# EAGLE library part LCD-30PIN (library GeekAmmo)
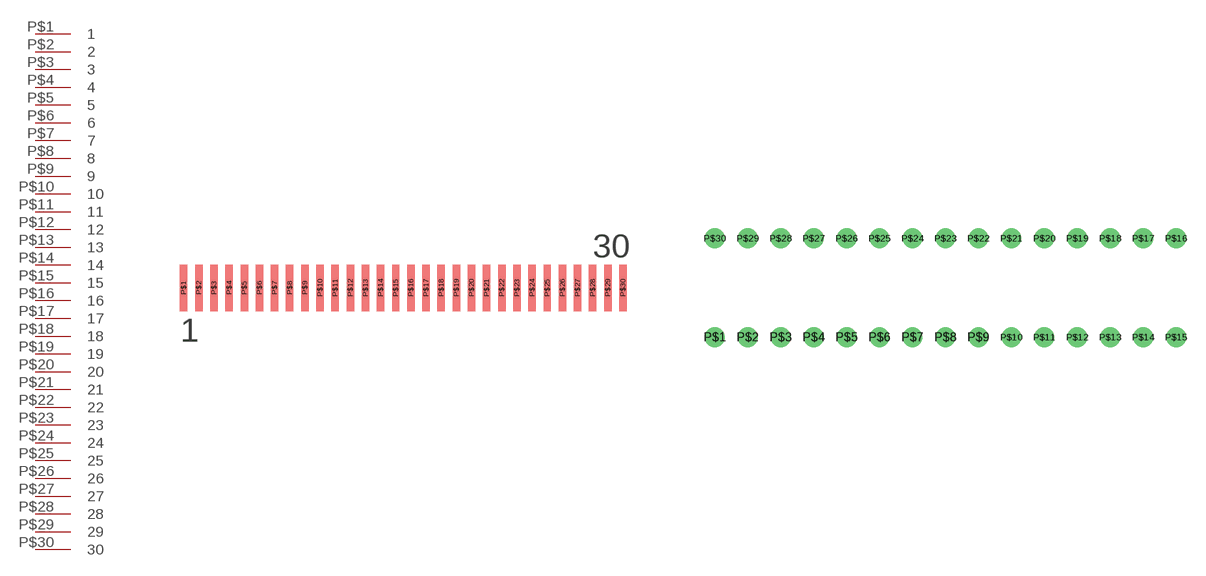
[diagram p8: symbol with the pads of FPC-30-0.65; footprints FPC-30-0.65, 15X2-PTH-BREADBOARD]

Designator prefix -

## LCD-30PIN-FPC-30-0.65  [FPC-30-0.65]
P$1  1
P$2  2
P$3  3
P$4  4
P$5  5
P$6  6
P$7  7
P$8  8
P$9  9
P$10  10
P$11  11
P$12  12
P$13  13
P$14  14
P$15  15
P$16  16
P$17  17
P$18  18
P$19  19
P$20  20
P$21  21
P$22  22
P$23  23
P$24  24
P$25  25
P$26  26
P$27  27
P$28  28
P$29  29
P$30  30

## LCD-30PIN-15X2-PTH-BREADBOARD  [15X2-PTH-BREADBOARD]
Pads as for FPC-30-0.65

## LCD-30PIN-FPC-30-1.00  [FPC-30-1.00]
Pads as for FPC-30-0.65

## LCD-30PIN-FPC-30-0.70  [FPC-30-0.70]
1  1
2  2
3  3
4  4
5  5
6  6
7  7
8  8
9  9
10  10
11  11
12  12
13  13
14  14
15  15
16  16
17  17
18  18
19  19
20  20
21  21
22  22
23  23
24  24
25  25
26  26
27  27
28  28
29  29
30  30

## Footprint FPC-30-0.65 (pad centres in mm)
30 PIN FPC 0.65 mm pitch
smd 0.32 x 2: P$1 0,0; P$2 0.65,0; P$3 1.3,0; P$4 1.95,0; P$5 2.6,0; P$6 3.25,0; P$7 3.9,0; P$8 4.55,0; P$9 5.2,0; P$10 5.85,0; P$11 6.5,0; P$12 7.15,0; P$13 7.8,0; P$14 8.45,0; P$15 9.1,0; P$16 9.75,0; P$17 10.4,0; P$18 11.05,0; P$19 11.7,0; P$20 12.35,0; P$21 13,0; P$22 13.65,0; P$23 14.3,0; P$24 14.95,0; P$25 15.6,0; P$26 16.25,0; P$27 16.9,0; P$28 17.55,0; P$29 18.2,0; P$30 18.85,0

## Footprint 15X2-PTH-BREADBOARD (pad centres in mm)
15x2 PTH FOR BREADBOARD
drill 1.016 round: P$1 0,0; P$2 2.54,0; P$3 5.08,0; P$4 7.62,0; P$5 10.16,0; P$6 12.7,0; P$7 15.24,0; P$8 17.78,0; P$9 20.32,0; P$10 22.86,0; P$11 25.4,0; P$12 27.94,0; P$13 30.48,0; P$14 33.02,0; P$15 35.56,0; P$16 35.56,7.62; P$17 33.02,7.62; P$18 30.48,7.62; P$19 27.94,7.62; P$20 25.4,7.62; P$21 22.86,7.62; P$22 20.32,7.62; P$23 17.78,7.62; P$24 15.24,7.62; P$25 12.7,7.62; P$26 10.16,7.62; P$27 7.62,7.62; P$28 5.08,7.62; P$29 2.54,7.62; P$30 0,7.62

## Footprint FPC-30-1.00 (pad centres in mm)
30 PIN FPC 1.00 mm pitch
smd 0.5 x 2: P$1 0,0; P$2 1,0; P$3 2,0; P$4 3,0; P$5 4,0; P$6 5,0; P$7 6,0; P$8 7,0; P$9 8,0; P$10 9,0; P$11 10,0; P$12 11,0; P$13 12,0; P$14 13,0; P$15 14,0; P$16 15,0; P$17 16,0; P$18 17,0; P$19 18,0; P$20 19,0; P$21 20,0; P$22 21,0; P$23 22,0; P$24 23,0; P$25 24,0; P$26 25,0; P$27 26,0; P$28 27,0; P$29 28,0; P$30 29,0

## Footprint FPC-30-0.70 (pad centres in mm)
30 PIN FPC 0.70 mm pitch
smd 0.35 x 2: 1 0,0; 2 0.7,0; 3 1.4,0; 4 2.1,0; 5 2.8,0; 6 3.5,0; 7 4.2,0; 8 4.9,0; 9 5.6,0; 10 6.3,0; 11 7,0; 12 7.7,0; 13 8.4,0; 14 9.1,0; 15 9.8,0; 16 10.5,0; 17 11.2,0; 18 11.9,0; 19 12.6,0; 20 13.3,0; 21 14,0; 22 14.7,0; 23 15.4,0; 24 16.1,0; 25 16.8,0; 26 17.5,0; 27 18.2,0; 28 18.9,0; 29 19.6,0; 30 20.3,0